# Altium footprint library CC26XXMOD.PcbLib: 2 footprints
Each footprint in its own frame and in the unit in brackets; x right, y up, seen from the top. Pads: shape width x height; smd on the part's side, far side on the other; paste and mask are expansions set on the pad; w line width, h text height; cw(c..) or ccw(c..) is an arc to the next point about the centre after c.
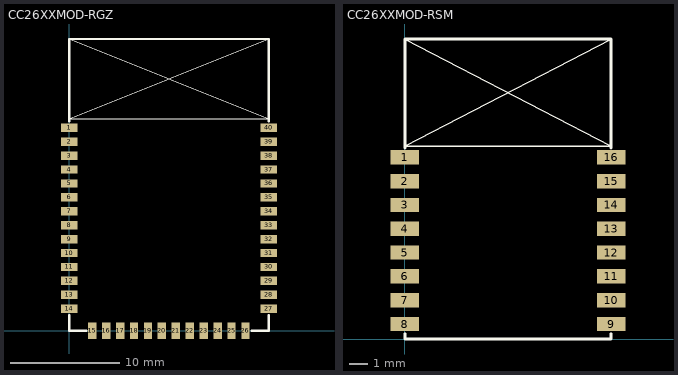
[diagram p0: the footprints below, top view; thin cyan lines are the x and y axes]

## CC26XXMOD-RGZ [mil] "CC260MOD-RGZ,CC2640MOD-RGZ,CC2640R2MOD-RGZ"
height 110.24
pads (40):
  rect 60x30 smd: 1(0,728.61) 2(0,678.61) 3(0,628.61) 4(0,578.61) 5(0,528.61) 6(0,478.61) 7(0,428.61) 8(0,378.61) 9(0,328.61) 10(0,278.61) 11(0,228.61) 12(0,178.61) 13(0,128.61) 14(0,78.61) 27(716.54,78.61) 28(716.54,128.61) 29(716.54,178.61) 30(716.54,228.61) 31(716.54,278.61) 32(716.54,328.61) 33(716.54,378.61) 34(716.54,428.61) 35(716.54,478.61) 36(716.54,528.61) 37(716.54,578.61) 38(716.54,628.61) 39(716.54,678.61) 40(716.54,728.61)
  rect 30x60 smd: 15(82.82,0) 16(132.82,0) 17(182.82,0) 18(232.82,0) 19(282.82,0) 20(332.82,0) 21(382.82,0) 22(432.82,0) 23(482.82,0) 24(532.82,0) 25(582.82,0) 26(632.82,0)
Top Overlay:
  lines w2: 0,1047.24 716.54,760 0,760 716.54,1047.24
  lines w8: 0,56 0,0 61,0 ; 0,752 0,1047.24 716.54,1047.24 716.54,752 ; 655,0 716.54,0 716.54,56
3D body: height 35, standoff 0, extent 0,0 716.54,1047.24

## CC26XXMOD-RSM [mil]
height 90.55
pads (16):
  rect 60x30 smd: 1(0,381.5) 2(0,331.5) 3(0,281.5) 4(0,231.5) 5(0,181.5) 6(0,131.5) 7(0,81.5) 8(0,31.5) 9(433.07,31.5) 10(433.07,81.5) 11(433.07,131.5) 12(433.07,181.5) 13(433.07,231.5) 14(433.07,281.5) 15(433.07,331.5) 16(433.07,381.5)
Top Overlay:
  lines w3: 0,630 433.07,405 0,405 433.07,630
  lines w6: 0,11 0,0 433.07,0 433.07,11 ; 0,401 0,630 433.07,630 433.07,401
3D body: height 35, standoff 0, extent 0,0 433.07,630